# EAGLE library part DDS:AD9854(EVAL_BOARD) (library QuantumOptics)
AD9854 Evaluation Board, Analog Devices, 300MSPS DDS. http://www.analog.com/en/content/0,2886,770%255F843%255F11302%255F0,00.html
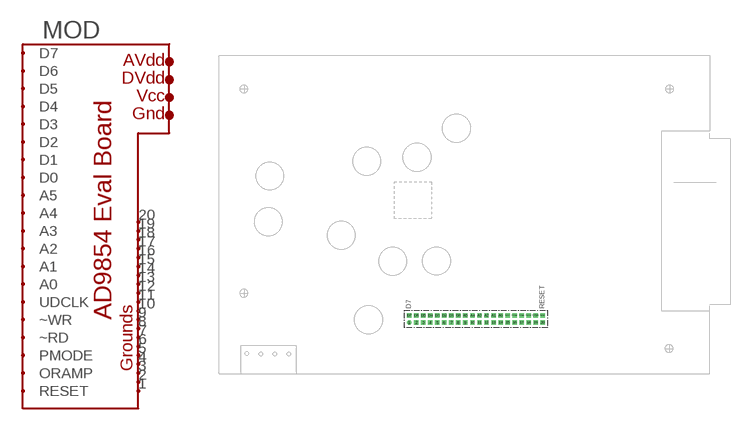
[diagram p100: symbol with the pads of DDS-AD9854_EVALBOARD; footprint DDS-AD9854_EVALBOARD]

Designator prefix MOD

## DDS:AD9854(EVAL_BOARD)  [DDS-AD9854_EVALBOARD]
1  GND1
2  GND2
3  GND3
4  GND4
5  GND5
6  GND6
7  GND7
8  GND8
9  GND9
10  GND10
11  GND11
12  GND12
13  GND13
14  GND14
15  GND15
16  GND16
17  GND17
18  GND18
19  GND19
20  GND20
A0  A0  in
A1  A1  in
A2  A2  in
A3  A3  in
A4  A4  in
A5  A5  in
D0  D0
D1  D1
D2  D2
D3  D3
D4  D4
D5  D5
D6  D6
D7  D7
OSK  ORAMP  nc
PMODE  PMODE  in
RDBAR  ~RD  in
RESET  RESET  in
UDCLK  UDCLK  in
WRBAR  ~WR  in

## Footprint DDS-AD9854_EVALBOARD (pad centres in mm)
AD9854 Evaluation Board, Analog Devices, 300MSPS DDS. http://www.analog.com/en/content/0,2886,770%255F843%255F11302%255F0,00.html
drill 1.067: 1 68.82,18.48
drill 1.067 square: 2 71.36,18.48; 3 73.9,18.48; 4 76.44,18.48; 5 78.98,18.48; 6 81.52,18.48; 7 84.06,18.48; 8 86.6,18.48; 9 89.14,18.48; 10 91.68,18.48; 11 94.22,18.48; 12 96.76,18.48; 13 99.3,18.48; 14 101.84,18.48; 15 104.38,18.48; 16 106.92,18.48; 17 109.46,18.48; 18 112,18.48; 19 114.54,18.48; 20 117.08,18.48; A0 101.84,21.02; A1 99.3,21.02; A2 96.76,21.02; A3 94.22,21.02; A4 91.68,21.02; A5 89.14,21.02; D0 86.6,21.02; D1 84.06,21.02; D2 81.52,21.02; D3 78.98,21.02; D4 76.44,21.02; D5 73.9,21.02; D6 71.36,21.02; D7 68.82,21.02; OSK 114.54,21.02; PMODE 112,21.02; RDBAR 109.46,21.02; RESET 117.08,21.02; UDCLK 104.38,21.02; WRBAR 106.92,21.02